# Altium schematic symbol library XTAL.SchLib: 4 symbols
Pins are listed as number, name and electrical type; pins without a type are passive.

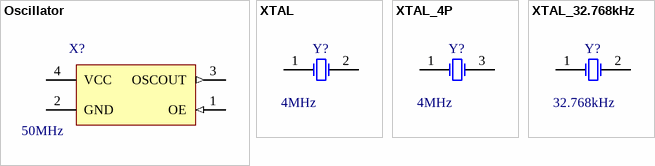
[diagram p0: symbols Oscillator to XTAL_32.768kHz]

## Oscillator
designator X?  value 50MHz  (hidden comment: Oscillator)
footprint XTAL-7050
footprint XTAL-3225
pins: 1 OE (in), 2 GND (power), 3 OSCOUT (out), 4 VCC (power)

## XTAL
designator Y?  Frequency: 4MHz  (hidden comment: XTAL)
Crystal Oscillator
footprint XTAL-49S-SMD
footprint XTAL-49S-DIP
pins: 1 OSC1, 2 OSC2

## XTAL_4P
designator Y?, comment Frequency: 4MHz  (hidden comment: XTAL)
Crystal Oscillator
footprint XTAL-3225
pins: 1 OSC1, 3 OSC2

## XTAL_32.768kHz
designator Y?  Frequency: 32.768kHz  (hidden comment: XTAL_32.768kHz)
Crystal Oscillator
footprint XTAL-DT38-SMD
pins: 1 OSC1, 2 OSC2